# Altium schematic symbol library SO_DIODES_3D.SchLib: 12 symbols
Pins are listed as number, name and electrical type; pins without a type are passive.

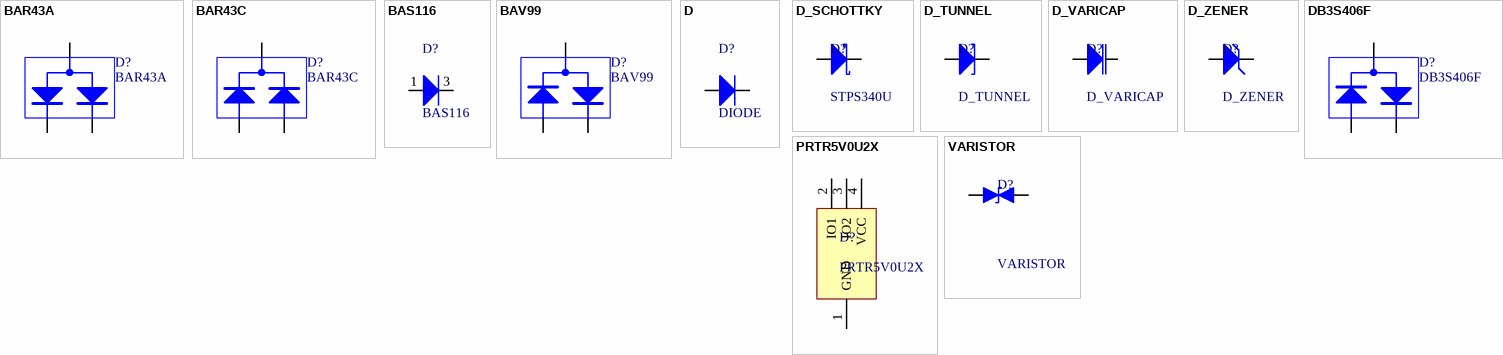
[diagram p0: symbols BAR43A to VARISTOR]

## BAR43A
designator D?
Diode; Modified_by: BEP; Modified: 10.2008; Manufacturer: *; Reverse_Voltage: *; Forward_Current: *
footprint SOT23 (Body 3x1.4mm)
pins: 1 K1, 2 K2, 3 A

## BAR43C
designator D?
Diode; Modified_by: BEP; Manufacturer: *; Modified: 10.2008; Reverse_Voltage: *; Forward_Current: *
footprint SOT23 (Body 3x1.4mm)
pins: 1 A1, 2 A2, 3 K

## BAS116
designator D?
Diode; Modified_by: BEP; Modified: 10.2008; Reverse_Voltage: *; Power: *; Forward_Current: *; Manufacturer: *
footprint SOT23 (Body 3x1.4mm)
pins: 1 A, 3 K

## BAV99
designator D?
Diode; Modified_by: BEP; Modified: 10.2008; Manufacturer: *; Reverse_Voltage: *; Forward_Current: *
footprint SOT23 (Body 3x1.4mm)
pins: 1 A1, 2 K2, 3 COM

## D
designator D?, comment DIODE
Modified_by: BEP; Modified: 10.2008; Reverse_Voltage: *; Power: *; Forward_Current: *; Manufacturer: *
footprint SMC_DO-214AB (Body 7.2x6.2mm)
footprint SMB_DO-214AA (Body 4.6x4mm)
footprint SMA_DO-214AC (Body 4.6x2.8mm)
footprint SOD323 (SC-76; Body 1.8x1.3mm)
footprint SOD123 (Body 2.8x1.8mm)
footprint SOD80 (MELF; Body 3.7x1.6mm)
pins: 1 K, 2 A

## D_SCHOTTKY
designator D?, comment STPS340U
Schottky Diode; Modified_By: BEP; Modified: 10.2008
footprint SMA_DO-214AC (Body 4.6x2.8mm)
footprint SMB_DO-214AA (Body 4.6x4mm)
footprint SMC_DO-214AB (Body 7.2x6.2mm)
footprint SOD123 (Body 2.8x1.8mm)
footprint SOD323 (SC-76; Body 1.8x1.3mm)
pins: 1 K, 2 A

## D_TUNNEL
designator D?
Tunnel Diode; Modified_By: BEP; Modified: 10.2008; Manufacturer: *
pins: 1 K, 2 A

## D_VARICAP
designator D?
Variable Capacitance Diode; Modified_by: BEP; Modified: 10.2008; Manufacturer: *
pins: 1 K, 2 A

## D_ZENER
designator D?
Zener Diode; Modified_by: BEP; Manufacturer: *; Modified: 10.2008
footprint MINI2-F3-B (Body 2.6x1.6mm)
footprint SOD123 (Body 2.8x1.8mm)
pins: 1 K, 2 A

## DB3S406F
designator D?
Diode double; Modified_by: BEP; Modified: 10.2008; Manufacturer: *; Reverse_Voltage: *; Forward_Current: *
footprint SSMINI3-F-B (Body 1,6x0.85mm)
footprint SOTFL50P160X80-3N (1,6x0,85x0,8mm (SOT-490, SC-89))
pins: 1 A1, 2 K2, 3 COM

## PRTR5V0U2X
designator D?
Double rail-to-rail ESD protection diode
footprint SOT143B (4 pin)
pins: 1 GND, 2 IO1, 3 IO2, 4 VCC

## VARISTOR
designator D?
Bidirectional Volt. Suppressor; Publisher: BEP
pins: 1 A1, 2 A2